# EAGLE library part 5_PIN_HEADER (library Keyboard Parts Library v52)
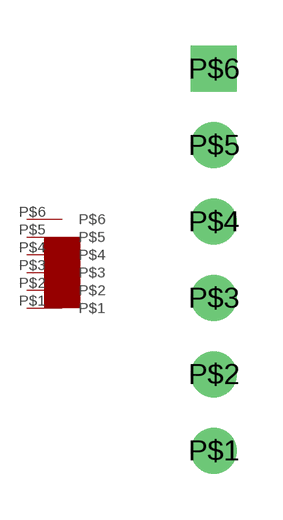
[diagram p2: symbol with the pads of 5_PIN_HEADER; footprint 5_PIN_HEADER]

Designator prefix -

## 5_PIN_HEADER  [5_PIN_HEADER]
P$1  P$1
P$2  P$2
P$3  P$3
P$4  P$4
P$5  P$5
P$6  P$6

## Footprint 5_PIN_HEADER (pad centres in mm)
drill 1: P$1 0,-6.25; P$2 0,-3.75; P$3 0,-1.25; P$4 0,1.25; P$5 0,3.75
drill 1 square: P$6 0,6.25